# EAGLE library part IPT2601 (library charginator_v1)
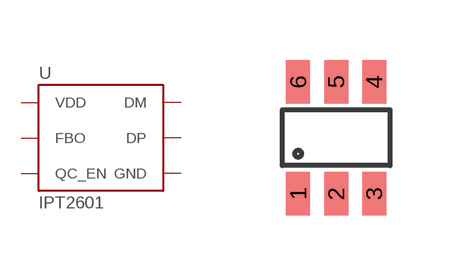
[diagram p3: symbol with the pads of SOT23-6; footprint SOT23-6]

Designator prefix U

## IPT2601  [SOT23-6]
1  DP
2  GND
3  FBO
4  QC_EN
5  VDD
6  DM

## Footprint SOT23-6 (pad centres in mm)
SOT23-6
smd 0.6 x 1.1: 1 0,0; 2 0.95,0; 3 1.9,0; 4 1.9,2.8; 5 0.95,2.8; 6 0,2.8